# Altium footprint library powercon.PCBLIB: 1 footprints
Each footprint in its own frame and in the unit in brackets; x right, y up, seen from the top. Pads: shape width x height; smd on the part's side, far side on the other; paste and mask are expansions set on the pad; w line width, h text height; cw(c..) or ccw(c..) is an arc to the next point about the centre after c.
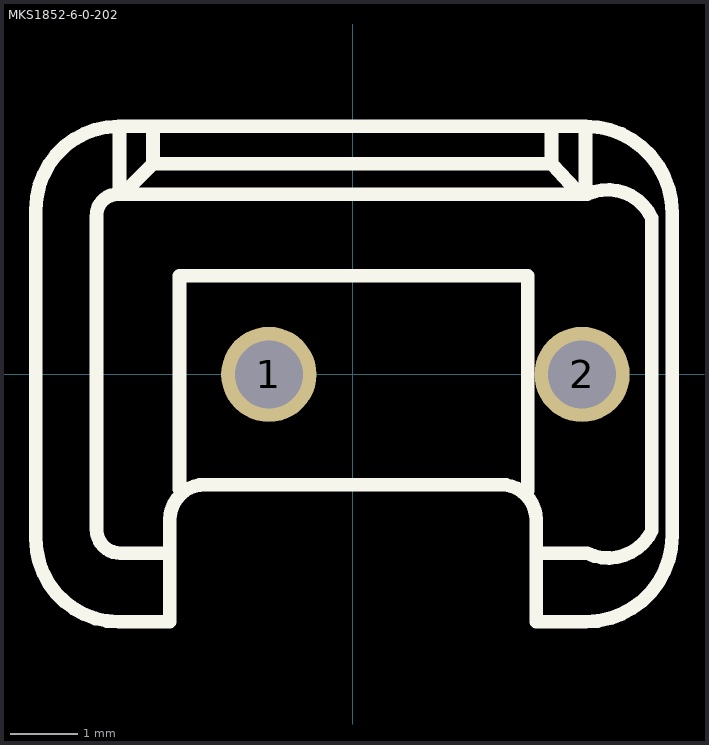
[diagram p0: the footprint, top view; thin cyan lines are the x and y axes]

## MKS1852-6-0-202 [mil]
pads (2):
  round 56 hole 40: 1(-49.21,0) 2(135,0)
Top Overlay:
  lines w8: -137.05,108 -137.05,144 ; -133.29,108 -118.28,123 ; -117.33,143 -117.33,124 117,124 117,145 ; -108.35,-105.13 -136.51,-105.13 cw(c-136.51,-91.05) -150.59,-91.05 -150.59,93 cw(c-137.99,93.4) -138.39,106 138,106 cw(c150,80) 176,92 176,-91.98 cw(c150.43,-79.56) 138,-105.13 112,-105.13 ; -101.78,-67.58 -101.78,58 103,58 103,-68.52 ; 118,123 131,109 ; 137,108 137,143 ; -186.26,-96.68 ccw(c-137.45,-96.68) -137.45,-145.49 -107.41,-145.49 -107.41,-85.41 cw(c-86.76,-85.41) -86.76,-64.76 87,-64.76 cw(c87.18,-85.59) 108,-85.41 108,-145.49 137,-145.49 ccw(c137.16,-94.64) 188,-94.8 188,95 ccw(c137,95) 137,146 -137.45,146 ccw(c-137.35,97.09) -186.26,97 -186.26,-96.68